# Altium schematic symbol library 升压IC.SchLib: 2 symbols
Pins are listed as number, name and electrical type; pins without a type are passive.

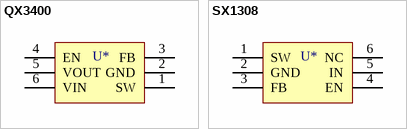
[diagram p0: symbols QX3400 to SX1308]

## QX3400
designator U*  (value not drawn)
0.9-5v升压IC
footprint sot23-6
pins: 1 SW, 2 GND, 3 FB, 4 EN, 5 VOUT, 6 VIN

## SX1308
designator U*  (value not drawn)
footprint sot23-6
pins: 1 SW, 2 GND, 3 FB, 4 EN, 5 IN, 6 NC